# Altium footprint library IC_SMD_DUAL.PCBLIB: 187 footprints (part 9 of 12)
Each footprint in its own frame and in the unit in brackets; x right, y up, seen from the top. Pads: shape width x height; smd on the part's side, far side on the other; paste and mask are expansions set on the pad; w line width, h text height; cw(c..) or ccw(c..) is an arc to the next point about the centre after c.
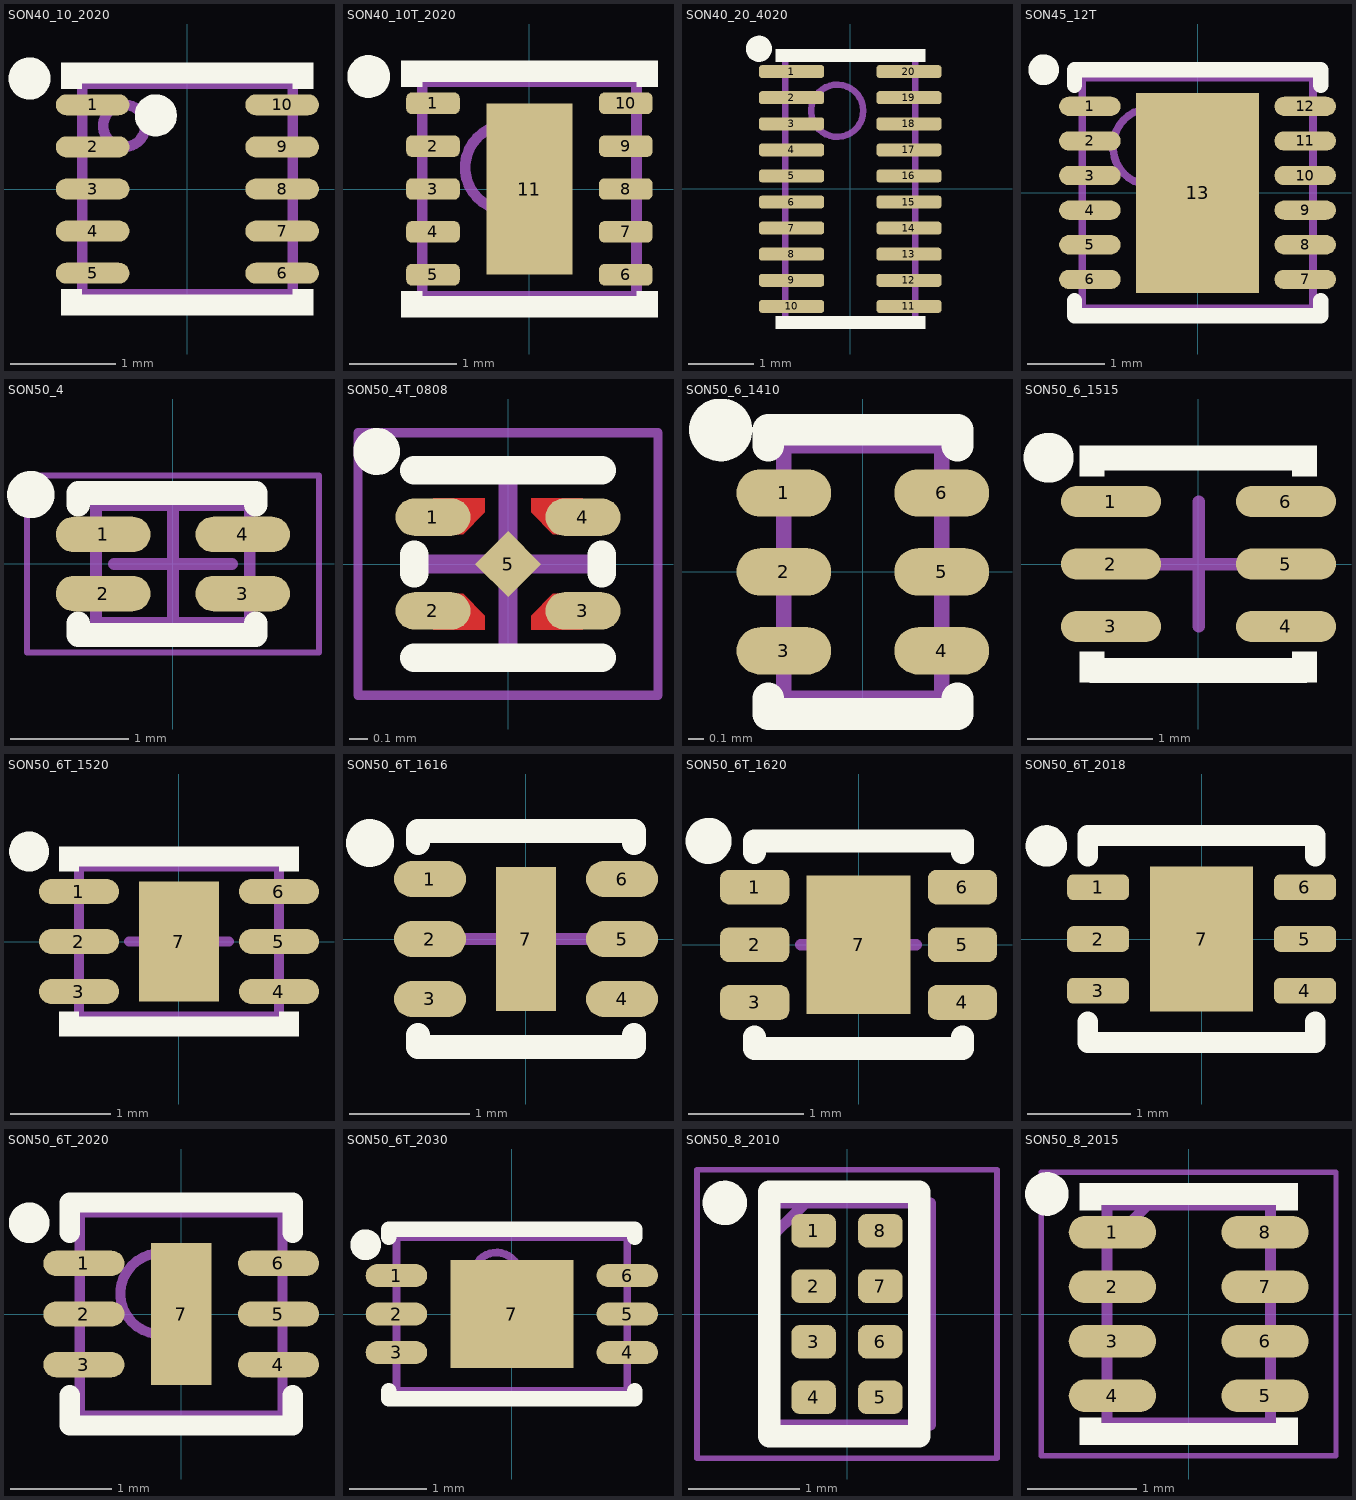
[diagram p8: the footprints below, top view; thin cyan lines are the x and y axes]

## SON40_10_2020 [mm] "DFN-10 pitch:0.4mm 2X2X0.85mm"
height 0.9
pads (10):
  oval 0.7x0.2 smd mask+0.05: 1(-0.9,0.8) 2(-0.9,0.4) 3(-0.9,0) 4(-0.9,-0.4) 5(-0.9,-0.8) 6(0.9,-0.8) 7(0.9,-0.4) 8(0.9,0) 9(0.9,0.4) 10(0.9,0.8)
TopOverlay:
  circle w0.2: c-1.5,1.05 r0.1
  circle w0.2: c-0.3,0.7 r0.1
  region: 1.2,-0.95 1,-0.95 1,-1.2 1.2,-1.2
  rectangle: -1.2,-1.2 -1,-0.95
  rectangle: -1.2,0.95 -1,1.2
  region: 1.2,1.2 1,1.2 1,0.95 1.2,0.95
  lines w0.2: -1.1,-1.1 1.1,-1.1 ; -1.1,1.1 1.1,1.1
Mechanical13:
  circle w0.1: c-0.6,0.6 r0.2
  lines w0.1: -1,-1 -1,1 1,1 1,-1 -1,-1
3D body "User Library-DFN-10 (2x2) 0_4 pitch.step": height 0.85, standoff -0.03, extent -1.01,-1 1.01,1

## SON40_10T_2020 [mm] "WSON, 10-LEAD, DSQ, 0.4mm pitch, 2x2mm"
height 0.8
pads (11):
  rrect50% 0.5x0.2 smd mask+0.05: 1(-0.9,0.8) 2(-0.9,0.4) 3(-0.9,0) 4(-0.9,-0.4) 5(-0.9,-0.8) 6(0.9,-0.8) 7(0.9,-0.4) 8(0.9,0) 9(0.9,0.4) 10(0.9,0.8)
  rect 0.8x1.6 smd paste-2 mask+0.075: 11(0,0)
TopOverlay:
  circle w0.2: c-1.5,1.05 r0.1
  region: 1.2,-0.95 1,-0.95 1,-1.2 1.2,-1.2
  rectangle: -1.2,-1.2 -1,-0.95
  rectangle: -1.2,0.95 -1,1.2
  region: 1.2,1.2 1,1.2 1,0.95 1.2,0.95
  lines w0.2: -1.1,-1.1 1.1,-1.1 ; -1.1,1.1 1.1,1.1
TopPaste:
  rectangle: -0.3,-0.7 0.3,-0.1
  rectangle: -0.3,0.1 0.3,0.7
Mechanical13:
  circle w0.1: c-0.2,0.2 r0.4
  lines w0.1: -1,-1 -1,1 1,1 1,-1 -1,-1
3D body "DSQ0010A.stp": height 0.8, standoff 0, extent -1,-1 1,1

## SON40_20_4020 [mm] "SON20, DQS, pitch: 0.4mm, 2x4x0.5mm"
height 0.55
pads (20):
  rrect50% 1x0.2 smd mask+0.05: 1(-0.9,1.8) 2(-0.9,1.4) 3(-0.9,1) 4(-0.9,0.6) 5(-0.9,0.2) 6(-0.9,-0.2) 7(-0.9,-0.6) 8(-0.9,-1) 9(-0.9,-1.4) 10(-0.9,-1.8) 11(0.9,-1.8) 12(0.9,-1.4) 13(0.9,-1) 14(0.9,-0.6) 15(0.9,-0.2) 16(0.9,0.2) 17(0.9,0.6) 18(0.9,1) 19(0.9,1.4) 20(0.9,1.8)
TopOverlay:
  circle w0.2: c-1.4,2.15 r0.1
  rectangle: -1.15,-2.15 1.15,-1.95
  rectangle: -1.15,1.95 1.15,2.15
Mechanical13:
  circle w0.1: c-0.2,1.2 r0.4
  lines w0.1: -1,-2 -1,2 1,2 1,-2 -1,-2
3D body "SON40_20_4X2.step": height 0.55, standoff 0, extent -1.001,-2 1.001,2

## SON45_12T [mm] "DFN, 12, 3X3mm, ptich: 0.45mm"
height 0.8
pads (13):
  oval 0.8x0.25 smd mask+0.05: 1(-1.4,1.125) 2(-1.4,0.675) 3(-1.4,0.225) 4(-1.4,-0.225) 5(-1.4,-0.675) 6(-1.4,-1.125) 7(1.4,-1.125) 8(1.4,-0.675) 9(1.4,-0.225) 10(1.4,0.225) 11(1.4,0.675) 12(1.4,1.125)
  rect 1.6x2.6 smd paste-3 mask+0.05: 13(0,0)
TopOverlay:
  circle w0.2: c-2,1.6 r0.1
  lines w0.2: -1.6,-1.4 -1.6,-1.6 1.6,-1.6 1.6,-1.4 ; -1.6,1.4 -1.6,1.6 1.6,1.6 1.6,1.4
TopPaste:
  rectangle: -0.7,-1.1 -0.2,-0.2
  region: 0.7,-0.2 0.2,-0.2 0.2,-1.1 0.7,-1.1
  region: 0.7,1.1 0.2,1.1 0.2,0.2 0.7,0.2
  rectangle: -0.7,0.2 -0.2,1.1
Mechanical13:
  circle w0.1: c-0.6,0.6 r0.5
  lines w0.1: -1.5,-1.5 1.5,-1.5 1.5,1.5 -1.5,1.5 -1.5,-1.5
3D body "SON45_12T.step": height 0.8, standoff 0, extent -1.501,-1.5 1.501,1.5

## SON50_4 [mm] "UDFN-4, 1X1.3mm, 0.5mm pitch"
height 0.55
pads (4):
  oval 0.8x0.3 smd mask+0.05: 1(-0.59,0.25) 2(-0.59,-0.25) 3(0.59,-0.25) 4(0.59,0.25)
TopOverlay:
  circle w0.2: c-1.202,0.587 r0.1
  lines w0.2: -0.8,-0.5 -0.8,-0.6 0.7,-0.6 0.7,-0.5 ; -0.8,0.5 -0.8,0.6 0.7,0.6 0.7,0.5
Mechanical13:
  lines w0.1: -0.65,-0.5 0.65,-0.5 0.65,0.5 -0.65,0.5 -0.65,-0.5
Mechanical15:
  lines w0.05: -1.235,-0.75 1.235,-0.75 1.235,0.75 -1.235,0.75 -1.235,-0.75
  lines w0.1: -0.5,0 0.5,0 ; 0,-0.5 0,0.5
3D body "SON50_4.step": height 0.55, standoff 0, extent -0.651,-0.5 0.651,0.5

## SON50_4T_0808 [mm] "SDFN-4, X2SON 5, DPW, 0.8X0.8mm, 0.48mm pitch"
height 0.6
pads (5):
  oval 0.4x0.2 smd mask+0.05: 1(-0.4,0.25) 2(-0.4,-0.25) 3(0.4,-0.25) 4(0.4,0.25)
  rect 0.25x0.25 smd rot 45 mask+0.05: 5(0,0)
TopLayer:
  region: -0.4,0.35 -0.125,0.35 -0.125,0.275 -0.24,0.16 -0.4,0.16
  region: 0.4,0.35 0.125,0.35 0.125,0.275 0.24,0.16 0.4,0.16
  region: 0.4,-0.35 0.125,-0.35 0.125,-0.275 0.24,-0.16 0.4,-0.16
  region: -0.4,-0.35 -0.125,-0.35 -0.125,-0.275 -0.24,-0.16 -0.4,-0.16
TopOverlay:
  circle w0.15: c-0.7,0.6 r0.05
  lines w0.15: -0.5,-0.5 0.5,-0.5 ; -0.5,-0.05 -0.5,0.05 ; -0.5,0.5 0.5,0.5 ; 0.5,-0.05 0.5,0.05
TopSolder:
  region: 0.4,0.4 0.1,0.4 0.1,0.24 0.24,0.1 0.4,0.1
  region: -0.4,0.4 -0.15,0.4 -0.15,0.26 -0.31,0.1 -0.4,0.1
  region: 0.4,-0.4 0.1,-0.4 0.1,-0.24 0.24,-0.1 0.4,-0.1
  region: -0.4,-0.4 -0.1,-0.4 -0.1,-0.24 -0.24,-0.1 -0.4,-0.1
Mechanical15:
  lines w0.05: -0.8,-0.7 0.8,-0.7 0.8,0.7 -0.8,0.7 -0.8,-0.7
  lines w0.1: -0.5,0 0.5,0 ; 0,-0.5 0,0.5
3D body: height 0.2, standoff 0, extent 0.12,0.13 0.41,0.35
3D body: height 0.2, standoff 0, extent 0.12,-0.35 0.41,-0.13
3D body: height 0.2, standoff 0, extent -0.41,-0.35 -0.12,-0.13
3D body: height 0.41, standoff 0.4, extent -0.37,0.145 -0.17,0.345
3D body: height 0.4, standoff 0.01, extent -0.4,-0.4 0.4,0.4
3D body: height 0.1, standoff 0, extent -0.18,-0.18 0.18,0.18
3D body: height 0.2, standoff 0, extent -0.41,0.14 -0.18,0.36

## SON50_6_1410 [mm] "DRY, ULLGA6_1.45X1_0.5mm, USON 6-PIN , UDFN, MicroPak-6"
height 1.2
pads (6):
  oval 0.6x0.3 smd mask+0.075: 1(-0.5,0.5) 2(-0.5,0) 3(-0.5,-0.5) 4(0.5,-0.5) 5(0.5,0) 6(0.5,0.5)
TopOverlay:
  circle w0.2: c-0.9,0.9 r0.1
  lines w0.2: -0.6,-0.8 -0.6,-0.9 0.6,-0.9 0.6,-0.8 ; -0.6,0.8 -0.6,0.9 0.6,0.9 0.6,0.8
Mechanical13:
  lines w0.1: -0.5,-0.8 0.5,-0.8 0.5,0.8 -0.5,0.8 -0.5,-0.8
3D body "User Library-dry-6.step": height 0.51, standoff 0, extent -0.5,-0.75 0.5,0.75

## SON50_6_1515 [mm] "WSON DSE,  6-Lead DFN Pitch: 0.5mm 1.5x1.5x0.8mm"
height 0.8
pads (6):
  oval 0.8x0.25 smd mask+0.075: 1(-0.7,0.5) 2(-0.7,0) 3(-0.7,-0.5) 4(0.7,-0.5) 5(0.7,0) 6(0.7,0.5)
TopOverlay:
  circle w0.2: c-1.2,0.85 r0.1
  rectangle: -0.95,-0.95 -0.75,-0.7
  region: 0.95,-0.7 0.75,-0.7 0.75,-0.95 0.95,-0.95
  region: 0.95,0.95 0.75,0.95 0.75,0.7 0.95,0.7
  rectangle: -0.95,0.7 -0.75,0.95
  lines w0.2: -0.85,-0.85 0.85,-0.85 ; -0.85,0.85 0.85,0.85
Mechanical15:
  lines w0.1: -0.5,0 0.5,0 ; 0,-0.5 0,0.5
3D body "DSE0006A.stp": height 0.77, standoff -0.03, extent -0.75,-0.75 0.75,0.75

## SON50_6T_1520 [mm] "X2-DFN1520-6,  6-Lead DFN Pitch: 0.5mm 1.5x2x0.8mm"
height 0.4
pads (7):
  oval 0.8x0.25 smd mask+0.075: 1(-1,0.5) 2(-1,0) 3(-1,-0.5) 4(1,-0.5) 5(1,0) 6(1,0.5)
  rect 0.8x1.2 smd paste-0.1: 7(0,0)
TopOverlay:
  circle w0.2: c-1.5,0.9 r0.1
  rectangle: -1.2,-0.95 -1,-0.7
  region: 1.2,-0.7 1,-0.7 1,-0.95 1.2,-0.95
  region: 1.2,0.95 1,0.95 1,0.7 1.2,0.7
  rectangle: -1.2,0.7 -1,0.95
  lines w0.2: -1.1,-0.85 1.1,-0.85 ; -1.1,0.85 1.1,0.85
Mechanical13:
  lines w0.1: -1,-0.75 1,-0.75 1,0.75 -1,0.75 -1,-0.75
Mechanical15:
  lines w0.1: -0.5,0 0.5,0 ; 0,-0.5 0,0.5
3D body "SON50P200X40_HS-7N.step": height 0.4, standoff 0, extent -1.001,-0.75 1.001,0.75

## SON50_6T_1616 [mm] "SLP1616P6 DGN08   6-Lead DFN Pitch: 0.5mm 1.6x1.6x0.6mm with Thermal pad"
height 0.6
pads (7):
  oval 0.6x0.3 smd paste-0.05 mask+0.075: 1(-0.8,0.5) 2(-0.8,0) 3(-0.8,-0.5) 4(0.8,-0.5) 5(0.8,0) 6(0.8,0.5)
  rect 0.5x1.2 smd paste-0.05 mask+0.075: 7(0,0)
TopOverlay:
  circle w0.2: c-1.3,0.8 r0.1
  lines w0.2: -0.9,-0.8 -0.9,-0.9 0.9,-0.9 0.9,-0.8 ; -0.9,0.8 -0.9,0.9 0.9,0.9 0.9,0.8
Mechanical15:
  lines w0.1: -0.5,0 0.5,0 ; 0,-0.5 0,0.5
3D body "User Library-SLP1616P6.step": height 0.55, standoff -0.03, extent -0.8,-0.8 0.8,0.8

## SON50_6T_1620 [mm] "6-Lead DFN Pitch: 0.5mm 1.6x2x0.8mm with Thermal pad"
height 0.8
pads (7):
  rrect50% 0.6x0.3 smd paste-0.05 mask+0.05: 1(-0.9,0.5) 2(-0.9,0) 3(-0.9,-0.5) 4(0.9,-0.5) 5(0.9,0) 6(0.9,0.5)
  rect 0.9x1.2 smd paste-0.05 mask+0.05: 7(0,0)
TopOverlay:
  circle w0.2: c-1.3,0.9 r0.1
  lines w0.2: -0.9,-0.8 -0.9,-0.9 0.9,-0.9 0.9,-0.8 ; -0.9,0.8 -0.9,0.9 0.9,0.9 0.9,0.8
Mechanical15:
  lines w0.1: -0.5,0 0.5,0 ; 0,-0.5 0,0.5
3D body "SON50_6T_1620XXX.step": height 0.8, standoff 0, extent -1.001,-0.8 1.001,0.8

## SON50_6T_2018 [mm] "U-DFN2018-6, 2x1.8mm, 0.5mm pitch"
height 0.75
pads (7):
  rrect50% 0.6x0.25 smd mask+0.05: 1(-1,0.5) 2(-1,0) 3(-1,-0.5) 4(1,-0.5) 5(1,0) 6(1,0.5)
  rect 1x1.4 smd mask+0.05: 7(0,0)
TopOverlay:
  circle w0.2: c-1.5,0.9 r0.1
  lines w0.2: -1.1,-0.8 -1.1,-1 1.1,-1 1.1,-0.8 ; -1.1,0.8 -1.1,1 1.1,1 1.1,0.8
3D body "SON50_6T_2018A.step": height 0.6, standoff 0, extent -1.001,-0.9 1.001,0.9

## SON50_6T_2020 [mm] "DFN, 2X2mm, 0.5mm pitch"
height 0.75
pads (7):
  oval 0.8x0.25 smd mask+0.05: 1(-0.96,0.5) 2(-0.96,0) 3(-0.96,-0.5) 4(0.96,-0.5) 5(0.96,0) 6(0.96,0.5)
  rect 0.6x1.4 smd paste-0.05 mask+0.075: 7(0,0)
TopOverlay:
  circle w0.2: c-1.5,0.9 r0.1
  lines w0.2: -1.1,-0.8 -1.1,-1.1 1.1,-1.1 1.1,-0.8 ; -1.1,0.8 -1.1,1.1 1.1,1.1 1.1,0.8
Mechanical13:
  circle w0.1: c-0.2,0.2 r0.4
  lines w0.1: -1,-1 1,-1 1,1 -1,1 -1,-1
3D body "SON50_6T_2020.step": height 0.75, standoff 0, extent -1.001,-1 1.001,1

## SON50_6T_2030 [mm] "6-Lead DFN Pitch: 0.5mm 2x3x0.75mm with Thermal pad"
height 0.75
pads (7):
  oval 0.8x0.3 smd mask+0.075: 1(-1.5,0.5) 2(-1.5,0) 3(-1.5,-0.5) 4(1.5,-0.5) 5(1.5,0) 6(1.5,0.5)
  rect 1.6x1.4 smd paste-0.1 mask+0.075: 7(0,0)
TopOverlay:
  circle w0.2: c-1.9,0.9 r0.1
  lines w0.2: -1.6,-1 -1.6,-1.1 1.6,-1.1 1.6,-1 ; -1.6,1 -1.6,1.1 1.6,1.1 1.6,1
Mechanical13:
  circle w0.1: c-0.2,0.5 r0.3
  lines w0.1: -1.5,-1 -1.5,1 1.5,1 1.5,-1 -1.5,-1
Mechanical15:
  lines w0.1: -0.5,0 0.5,0 ; 0,-0.5 0,0.5
3D body: height 0.2, standoff 0, extent 1.05,0.375 1.55,0.625
3D body: height 0.2, standoff 0, extent 1.05,-0.125 1.55,0.125
3D body: height 0.2, standoff 0, extent 1.05,-0.625 1.55,-0.375
3D body: height 0.2, standoff 0, extent -1.55,-0.625 -1.05,-0.375
3D body: height 0.2, standoff 0, extent -1.55,-0.125 -1.05,0.125
3D body: height 0.2, standoff 0, extent -1.55,0.375 -1.05,0.625
3D body: height 0.75, standoff 0, extent -1.5,-1 1.5,1

## SON50_8_2010 [mm] "QFN-8 DLC, 1.95X1X0.5mm, pitch: 0.5mm"
height 0.5
pads (8):
  rrect50% 0.4x0.3 smd mask+0.05: 1(-0.3,0.75) 2(-0.3,0.25) 3(-0.3,-0.25) 4(-0.3,-0.75) 5(0.3,-0.75) 6(0.3,-0.25) 7(0.3,0.25) 8(0.3,0.75)
TopOverlay:
  circle w0.2: c-1.1,1 r0.1
  lines w0.2: -0.7,-1.1 0.65,-1.1 0.65,1.1 -0.7,1.1 -0.7,-1.1
Mechanical15:
  lines w0.1: -0.75,0.625 -0.375,1 ; -0.75,-1 0.75,-1 0.75,1 -0.75,1 -0.75,-1
Mechanical 20:
  lines w0.05: -1.35,-1.3 1.35,-1.3 1.35,1.3 -1.35,1.3 -1.35,-1.3
3D body "User Library-SOT833-1 (XSON8).step": height 0.46, standoff -0.04, extent -0.55,-1 0.5,1

## SON50_8_2015 [mm] "QFN-8 DLC, 2X1.5X1mm, pitch: 0.5mm"
height 1
pads (8):
  oval 0.8x0.3 smd mask+0.05: 1(-0.7,0.75) 2(-0.7,0.25) 3(-0.7,-0.25) 4(-0.7,-0.75) 5(0.7,-0.75) 6(0.7,-0.25) 7(0.7,0.25) 8(0.7,0.75)
TopOverlay:
  circle w0.2: c-1.3,1.1 r0.1
  region: -0.8,1.2 -0.8,0.95 -1,0.95 -1,1.2
  region: 0.8,1.2 0.8,0.95 1,0.95 1,1.2
  region: 0.8,-1.2 0.8,-0.95 1,-0.95 1,-1.2
  region: -0.8,-1.2 -0.8,-0.95 -1,-0.95 -1,-1.2
  lines w0.2: -0.9,-1.1 0.9,-1.1 ; -0.9,1.1 0.9,1.1
Mechanical15:
  lines w0.1: -0.75,0.625 -0.375,1 ; -0.75,-1 -0.75,1 0.75,1 0.75,-1 -0.75,-1
Mechanical 20:
  lines w0.05: -1.35,-1.3 -1.35,1.3 1.35,1.3 1.35,-1.3 -1.35,-1.3
3D body "TPS62821DLCT.stp": height 1, standoff 0, extent -0.8,-1 0.8,1